# Altium integrated library Motor driver.IntLib: 1 symbol
Pins are listed as number, name and electrical type; pins without a type are passive.

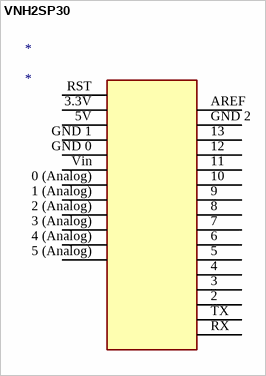
[diagram p0: symbol VNH2SP30]

## VNH2SP30
designator *
footprint Model Name (Footprint not found)
footprint VNH2SP30
pins: 0 (Analog), 1 (Analog), 2, 2 (Analog), 3, 3 (Analog), 3.3V (power), 4, 4 (Analog), 5, 5 (Analog), 5V (power), 6, 7, 8, 9, 10, 11, 12, 13, AREF, GND 0 (power), GND 1 (power), GND 2, RST, RX, TX, Vin